# Altium schematic symbol library BaseBoard.SchLib: 69 symbols
Pins are listed as number, name and electrical type; pins without a type are passive.

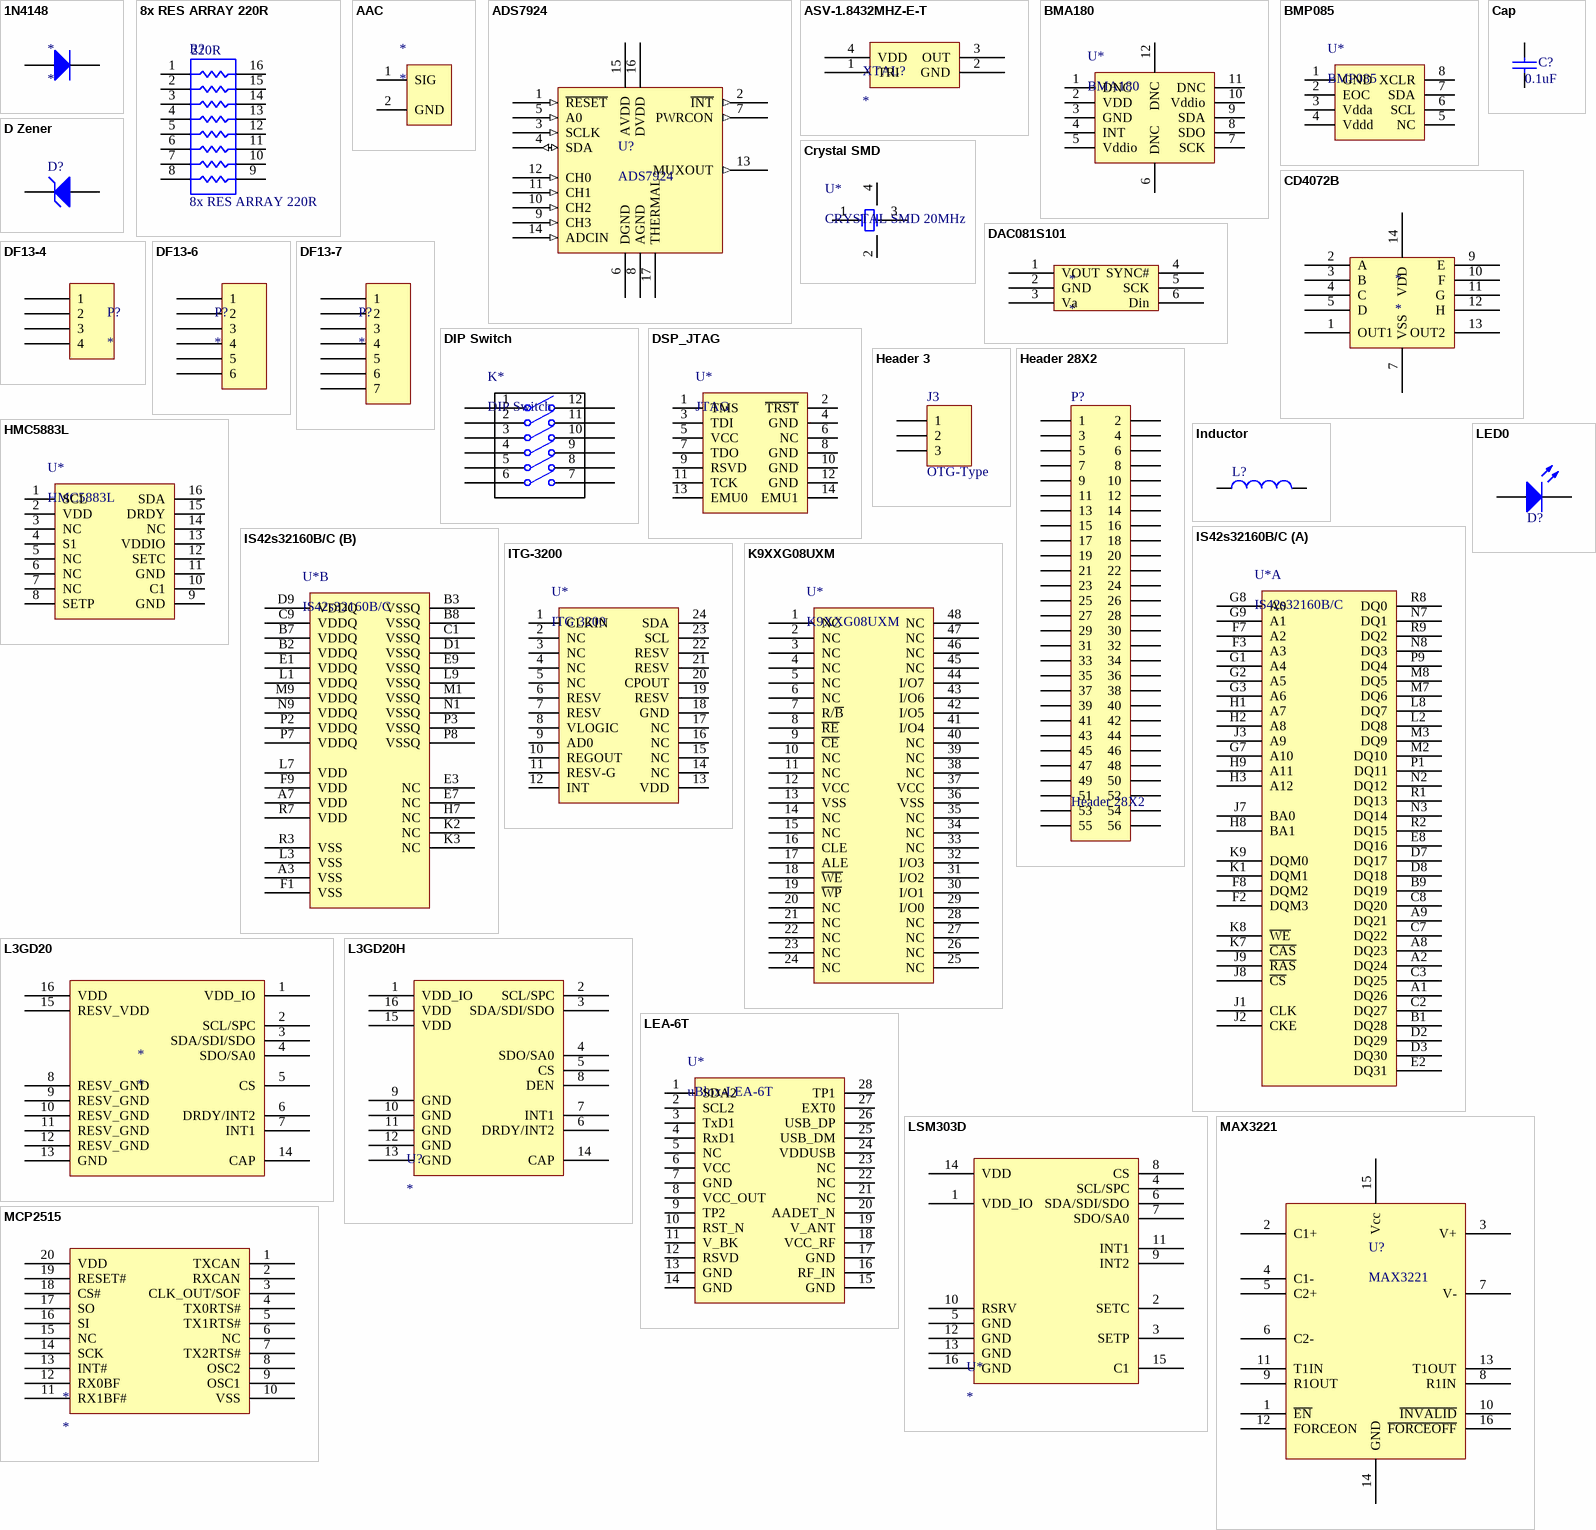
[diagram p0: symbols 1N4148 to MCP2515]

## 1N4148
designator *
Supplier 1: Digi-Key; Supplier Part Number 1: 1N4148WSFSCT-ND
footprint SOD-323F
footprint Model Name (Footprint not found)
pins: 1 A, 2 K

## 8x RES ARRAY 220R
designator R?  value 220R
Isolated Resistor Network; Published: 24-Mar-1999; LatestRevisionDate: 29-May-2009; LatestRevisionNote: IPC-7351 Footprint Added.; PackageReference: SO-16; Publisher: Altium Limited; PackageDescription: 16-Pin Small Outline Integrated Circuit 1.27 mm Pitch; Code_JEDEC: MS-012-AC; Code_IPC: SOIC127P600-16; Supplier 1: Digi-Key; Supplier Part Number 1: 766-163-R220P-ND
footprint SO-16_N (SOIC, 16-Leads, Body 9.9x3.9mm, Pitch 1.27mm, IPC Medium Density)
footprint SO-16_L (SOIC, 16-Leads, Body 9.9x3.9mm, Pitch 1.27mm, IPC High Density)
footprint SO-16_M (SOIC, 16-Leads, Body 9.9x3.9mm, Pitch 1.27mm, IPC Low Density)
simulation model respack_8 (Spice Subcircuit)
pins: 1, 2, 3, 4, 5, 6, 7, 8, 9, 10, 11, 12, 13, 14, 15, 16

## AAC
designator *
footprint u.FL
pins: 1 SIG, 2 GND

## ADS7924
designator U?
12-bit, 4-ch MUX input SAR ADC with Intelligent System Power Control; datasheet: http://www.ti.com/lit/ds/symlink/ads7924.pdf; Supplier 1: Digi-Key; Supplier Part Number 1: 296-27456-1-ND
footprint QFN50P300X300X80_HS-17N (QFN, 16-Leads, Body 3.00x3.00mm, Pitch 0.50mm, Thermal Pad 1.70x1.70mm, IPC Medium Density)
pins: 1 ~{RESET} (in), 2 ~{INT} (out), 3 SCLK (in), 4 SDA (io), 5 A0 (in), 6 DGND, 7 PWRCON (out), 8 AGND, 9 CH3 (in), 10 CH2 (in), 11 CH1 (in), 12 CH0 (in), 13 MUXOUT (out), 14 ADCIN (in), 15 AVDD (power), 16 DVDD (power), 17 THERMAL (power)

## ASV-1.8432MHZ-E-T
designator XTAL?
Value: 1.8432MHz; Supplier 1: Digi-Key; Supplier Part Number 1: 535-10062-1-ND
footprint ASV-1.8432MHZ-E-T
pins: 1 TRI, 2 GND, 3 OUT, 4 VDD

## BMA180
designator U*
Accelerometer - LGA12
footprint LGA12
pins: 1 DNC, 2 VDD, 3 GND, 4 INT, 5 Vddio, 6 DNC, 7 SCK, 8 SDO, 9 SDA, 10 Vddio, 11 DNC, 12 DNC

## BMP085
designator U*
Pressure sensor - LCC8
footprint LCC8
pins: 1 GND, 2 EOC "1-conversion end", 3 Vdda, 4 Vddd, 5 NC, 6 SCL, 7 SDA, 8 XCLR "Low to reset"

## Cap
designator C?, comment 0.1uF
Capacitor; Value: 100pF; Published: 8-Jun-2000; LatestRevisionDate: 17-Jul-2002; LatestRevisionNote: Re-released for DXP Platform.; PackageReference: RAD-0.3; Publisher: Altium Limited; PackageDescription: Radial Cap, Thru-Hole; 2 Leads; 0.3 in Pin Spacing
footprint 0603 (Chip Capacitor, Body 1.6x0.8mm, IPC High Density)
simulation model CAP (Capacitor)
signal-integrity model Cap
pins: 1, 2

## CD4072B
designator *
footprint SOP14
pins: 1 OUT1, 2 A, 3 B, 4 C, 5 D, 7 VSS, 9 E, 10 F, 11 G, 12 H, 13 OUT2, 14 VDD

## Crystal SMD
designator U*, comment CRYSTAL SMD 20MHz
Supplier 1: Digi-Key; Supplier Part Number 1: 644-1050-1-ND
footprint CRYSTAL - 2.5*2.2 (2.5 * 2, 24MHz,)
footprint Crystal - 3.2*2.5 (SMD Crystal. 20MHz)
pins: 1 xin, 2 GND, 3 xout, 4 GND

## D Zener
designator D?, comment SS34  (value not drawn)
Zener Diode; Published: 8-Jun-2000; LatestRevisionDate: 17-Jul-2002; LatestRevisionNote: Re-released for DXP Platform.; PackageReference: DIODE-0.7; Publisher: Altium Limited; PackageDescription: Diode, Thru-Hole; 2 Leads; 0.7 in Pin Spacing
footprint SMB-2114
simulation model ZENER (Diode)
signal-integrity model D Zener
pins: 1 A, 2 K

## DAC081S101
designator *
footprint SOP6
pins: 1 VOUT, 2 GND, 3 Va, 4 SYNC#, 5 SCK, 6 Din

## DF13-4
designator P?
Supplier 1: Digi-Key; Supplier Part Number 1: H3369-ND
footprint DF13-4S-1.25DS (DF13, 4 pin through hole 1.25mm)
footprint DF13-4S-1.25H (Hirose DF13 horizontal SMD 4 pin)
pins: 1, 2, 3, 4

## DF13-6
designator P?
Supplier 1: Digi-Key; Supplier Part Number 1: H3371-ND
footprint DF13-6S-1.25DS (DF13, 6 pin through hole 1.25mm)
footprint DF13-6S-1.25H (Hirose DF13 Horisontal SMD 6 pin)
pins: 1, 2, 3, 4, 5, 6

## DF13-7
designator P?
Supplier 1: Digi-Key; Supplier Part Number 1: H121949CT-ND
footprint DF13-7S-1.25DS (DF13, 7 pin through hole, 1.25mm)
footprint DF13-7S-1.25H (Hirose Right handle SMD 7pin)
pins: 1, 2, 3, 4, 5, 6, 7

## DIP Switch
designator K*
DIP Switch - 6, 1.27mm
footprint CHS-06TA
pins: 1, 2, 3, 4, 5, 6, 7, 8, 9, 10, 11, 12

## DSP_JTAG
designator U*, comment JTAG
DSP_JTAG
footprint HDR2X7
pins: 1 TMS, 2 ~{TRST}, 3 TDI, 4 GND, 5 VCC, 6 NC, 7 TDO, 8 GND, 9 RSVD, 10 GND, 11 TCK, 12 GND, 13 EMU0, 14 EMU1

## Header 3
designator J3, comment OTG-Type
Header, 3-Pin; LatestRevisionDate: 17-Jul-2002; LatestRevisionNote: Re-released for DXP Platform.; Publisher: Altium Limited
footprint HDR1X3 (Connector; Header; 3 Position)
signal-integrity model Connector
pins: 1, 2, 3

## Header 28X2
designator P?
Header, 28-Pin, Dual row; LatestRevisionDate: 17-Jul-2002; LatestRevisionNote: Re-released for DXP Platform.; Publisher: Altium Limited
pins: 1, 2, 3, 4, 5, 6, 7, 8, 9, 10, 11, 12, 13, 14, 15, 16, 17, 18, 19, 20, 21, 22, 23, 24, 25, 26, 27, 28, 29, 30, 31, 32, 33, 34, 35, 36, 37, 38, 39, 40, 41, 42, 43, 44, 45, 46, 47, 48, 49, 50, 51, 52, 53, 54, 55, 56

## HMC5883L
designator U*
Magnetometer - LCC16
footprint LCC16
pins: 1 SCL, 2 VDD, 3 NC, 4 S1, 5 NC, 6 NC, 7 NC, 8 SETP, 9 GND, 10 C1, 11 GND, 12 SETC, 13 VDDIO, 14 NC, 15 DRDY, 16 SDA

## Inductor
designator L?  (value not drawn)
Code_IEC: 1005; Value: 10mH; Published: 8-Jun-2000; LatestRevisionDate: 29-May-2009; LatestRevisionNote: IPC-7351 Footprint Added.; PackageReference: 0402-A; Publisher: Altium Limited; PackageDescription: Chip Inductor; Code_JEITA: 0402
footprint 0402-A (Chip Inductor, Body 1.0x0.5mm, IPC High Density)
footprint INDC1608L (Chip Inductor, Body 1.6x0.8mm, IPC High Density)
footprint 2029 (Chip Inductor, Body 2.0x1.2mm, IPC High Density)
footprint 0603 (Chip Inductor, Body 0.6x0.3mm, IPC High Density)
footprint INDC3216 (Chip Inductor, Body 3.2x1.6mm, IPC High Density)
footprint INDC4532 (Chip Inductor, Body 4.5x3.2mm, IPC High Density)
simulation model INDUCTOR (Inductor)
signal-integrity model Inductor
pins: 1, 2

## IS42s32160B/C
designator U*
512Mb, 32bit, SDR SDRAM
footprint FBGA-90 (8 * 13mm, 90-Ball Ball Grid Array Rectangular 0.8 mm Pitch (FB))
part A pins: A1 DQ26, A2 DQ24, A8 DQ23, A9 DQ21, B1 DQ28, B9 DQ19, C2 DQ27, C3 DQ25, C7 DQ22, C8 DQ20, D2 DQ29, D3 DQ30, D7 DQ17, D8 DQ18, E2 DQ31, E8 DQ16, F2 DQM3, F3 A3, F7 A2, F8 DQM2, G1 A4, G2 A5, G3 A6, G7 A10, G8 A0, G9 A1, H1 A7, H2 A8, H3 A12, H8 BA1, H9 A11, J1 CLK, J2 CKE, J3 A9, J7 BA0, J8 ~{CS}, J9 ~{RAS}, K1 DQM1, K7 ~{CAS}, K8 ~{WE}, K9 DQM0, L2 DQ8, L8 DQ7, M2 DQ10, M3 DQ9, M7 DQ6, M8 DQ5, N2 DQ12, N3 DQ14, N7 DQ1, N8 DQ3, P1 DQ11, P9 DQ4, R1 DQ13, R2 DQ15, R8 DQ0, R9 DQ2
part B pins: A3 VSS, A7 VDD, B2 VDDQ, B3 VSSQ, B7 VDDQ, B8 VSSQ, C1 VSSQ, C9 VDDQ, D1 VSSQ, D9 VDDQ, E1 VDDQ, E3 NC, E7 NC, E9 VSSQ, F1 VSS, F9 VDD, H7 NC, K2 NC, K3 NC, L1 VDDQ, L3 VSS, L7 VDD, L9 VSSQ, M1 VSSQ, M9 VDDQ, N1 VSSQ, N9 VDDQ, P2 VDDQ, P3 VSSQ, P7 VDDQ, P8 VSSQ, R3 VSS, R7 VDD

## ITG-3200
designator U*, comment ITG 3200
Gyro
footprint QFN24 (4 * 4 mm)
pins: 1 CLKIN, 2 NC, 3 NC, 4 NC, 5 NC, 6 RESV, 7 RESV, 8 VLOGIC, 9 AD0, 10 REGOUT, 11 RESV-G, 12 INT, 13 VDD, 14 NC, 15 NC, 16 NC, 17 NC, 18 GND, 19 RESV, 20 CPOUT, 21 RESV, 22 RESV, 23 SCL, 24 SDA

## K9XXG08UXM
designator U*
8BIT-NAND FLASH
footprint TSSO12X20-G48/P.5
pins: 1 NC, 2 NC, 3 NC, 4 NC, 5 NC, 6 NC, 7 R/~{B}, 8 ~{RE}, 9 ~{CE}, 10 NC, 11 NC, 12 VCC, 13 VSS, 14 NC, 15 NC, 16 CLE, 17 ALE, 18 ~{WE}, 19 ~{WP}, 20 NC, 21 NC, 22 NC, 23 NC, 24 NC, 25 NC, 26 NC, 27 NC, 28 NC, 29 I/O0, 30 I/O1, 31 I/O2, 32 I/O3, 33 NC, 34 NC, 35 NC, 36 VSS, 37 VCC, 38 NC, 39 NC, 40 NC, 41 I/O4, 42 I/O5, 43 I/O6, 44 I/O7, 45 NC, 46 NC, 47 NC, 48 NC

## L3GD20
designator *
Supplier 1: Digi-Key; Supplier Part Number 1: 497-12081-1-ND
footprint LGA16 (QFN, 16-Leads, Body 4.00x4.00mm, Pitch 0.65mm, IPC Medium Density)
pins: 1 VDD_IO, 2 SCL/SPC, 3 SDA/SDI/SDO, 4 SDO/SA0, 5 CS, 6 DRDY/INT2, 7 INT1, 8 RESV_GND, 9 RESV_GND, 10 RESV_GND, 11 RESV_GND, 12 RESV_GND, 13 GND, 14 CAP, 15 RESV_VDD, 16 VDD

## L3GD20H
designator U?
footprint LGA16L (3x3x1.0)
pins: 1 VDD_IO, 2 SCL/SPC, 3 SDA/SDI/SDO, 4 SDO/SA0, 5 CS, 6 DRDY/INT2, 7 INT1, 8 DEN, 9 GND, 10 GND, 11 GND, 12 GND, 13 GND, 14 CAP, 15 VDD, 16 VDD

## LEA-6T
designator U*, comment uBlox-LEA-6T
GPS module
footprint LEA-6
pins: 1 SDA2, 2 SCL2, 3 TxD1, 4 RxD1, 5 NC, 6 VCC, 7 GND, 8 VCC_OUT, 9 TP2, 10 RST_N, 11 V_BK, 12 RSVD, 13 GND, 14 GND, 15 GND, 16 RF_IN, 17 GND, 18 VCC_RF, 19 V_ANT, 20 AADET_N, 21 NC, 22 NC, 23 NC, 24 VDDUSB, 25 USB_DM, 26 USB_DP, 27 EXT0, 28 TP1

## LED0
designator D?  (value not drawn)
Typical INFRARED GaAs LED; Published: 8-Jun-2000; LatestRevisionDate: 08-Jul-2005; LatestRevisionNote: Mech Layer 1 removed.; PackageReference: LED-0; Publisher: Altium Limited; PackageDescription: LED; 2 Leads
footprint 0805 (body2.0mm * 1.2mm)
simulation model LED0 (Diode)
pins: 1 A, 2 K

## LSM303D
designator U*
Supplier 1: Digi-Key; Supplier Part Number 1: 497-13819-1-ND
footprint LGA16L (3x3x1.0)
pins: 1 VDD_IO, 2 SETC, 3 SETP, 4 SCL/SPC, 5 GND, 6 SDA/SDI/SDO, 7 SDO/SA0, 8 CS, 9 INT2, 10 RSRV, 11 INT1, 12 GND, 13 GND, 14 VDD, 15 C1, 16 GND

## MAX3221
designator U?
ComponentLink1URL: http://datasheets.maximintegrated.com/en/ds/MAX3221-MAX3243.pdf; ComponentLink1Description: Datasheet; Supplier 1: Digi-Key; Supplier Part Number 1: MAX3221CUE+-ND
footprint TSOP65P640X110-16M (TSOP, 16-Leads, Body 5.00x4.40mm, Pitch 0.65mm, IPC Low Density)
pins: 1 ~{EN}, 2 C1+, 3 V+, 4 C1-, 5 C2+, 6 C2-, 7 V-, 8 R1IN, 9 R1OUT, 10 ~{INVALID}, 11 T1IN, 12 FORCEON, 13 T1OUT, 14 GND, 15 Vcc, 16 ~{FORCEOFF}

## MCP2515
designator *
footprint TSSOP20 (Shrink Small Outline; 20 Leads; Body Width 4.4 mm; Pitch 0.65 mm)
footprint Quad20; pin to pad 1>3 2>4 3>5 4>6 5>7 6>8 7>9 8>10 9>11 10>12 11>13 12>14 13>15 14>16 15>17 16>18 17>19 18>20 19>1 20>2
pins: 1 TXCAN, 2 RXCAN, 3 CLK_OUT/SOF, 4 TX0RTS#, 5 TX1RTS#, 6 NC, 7 TX2RTS#, 8 OSC2, 9 OSC1, 10 VSS, 11 RX1BF#, 12 RX0BF, 13 INT#, 14 SCK, 15 NC, 16 SI, 17 SO, 18 CS#, 19 RESET#, 20 VDD

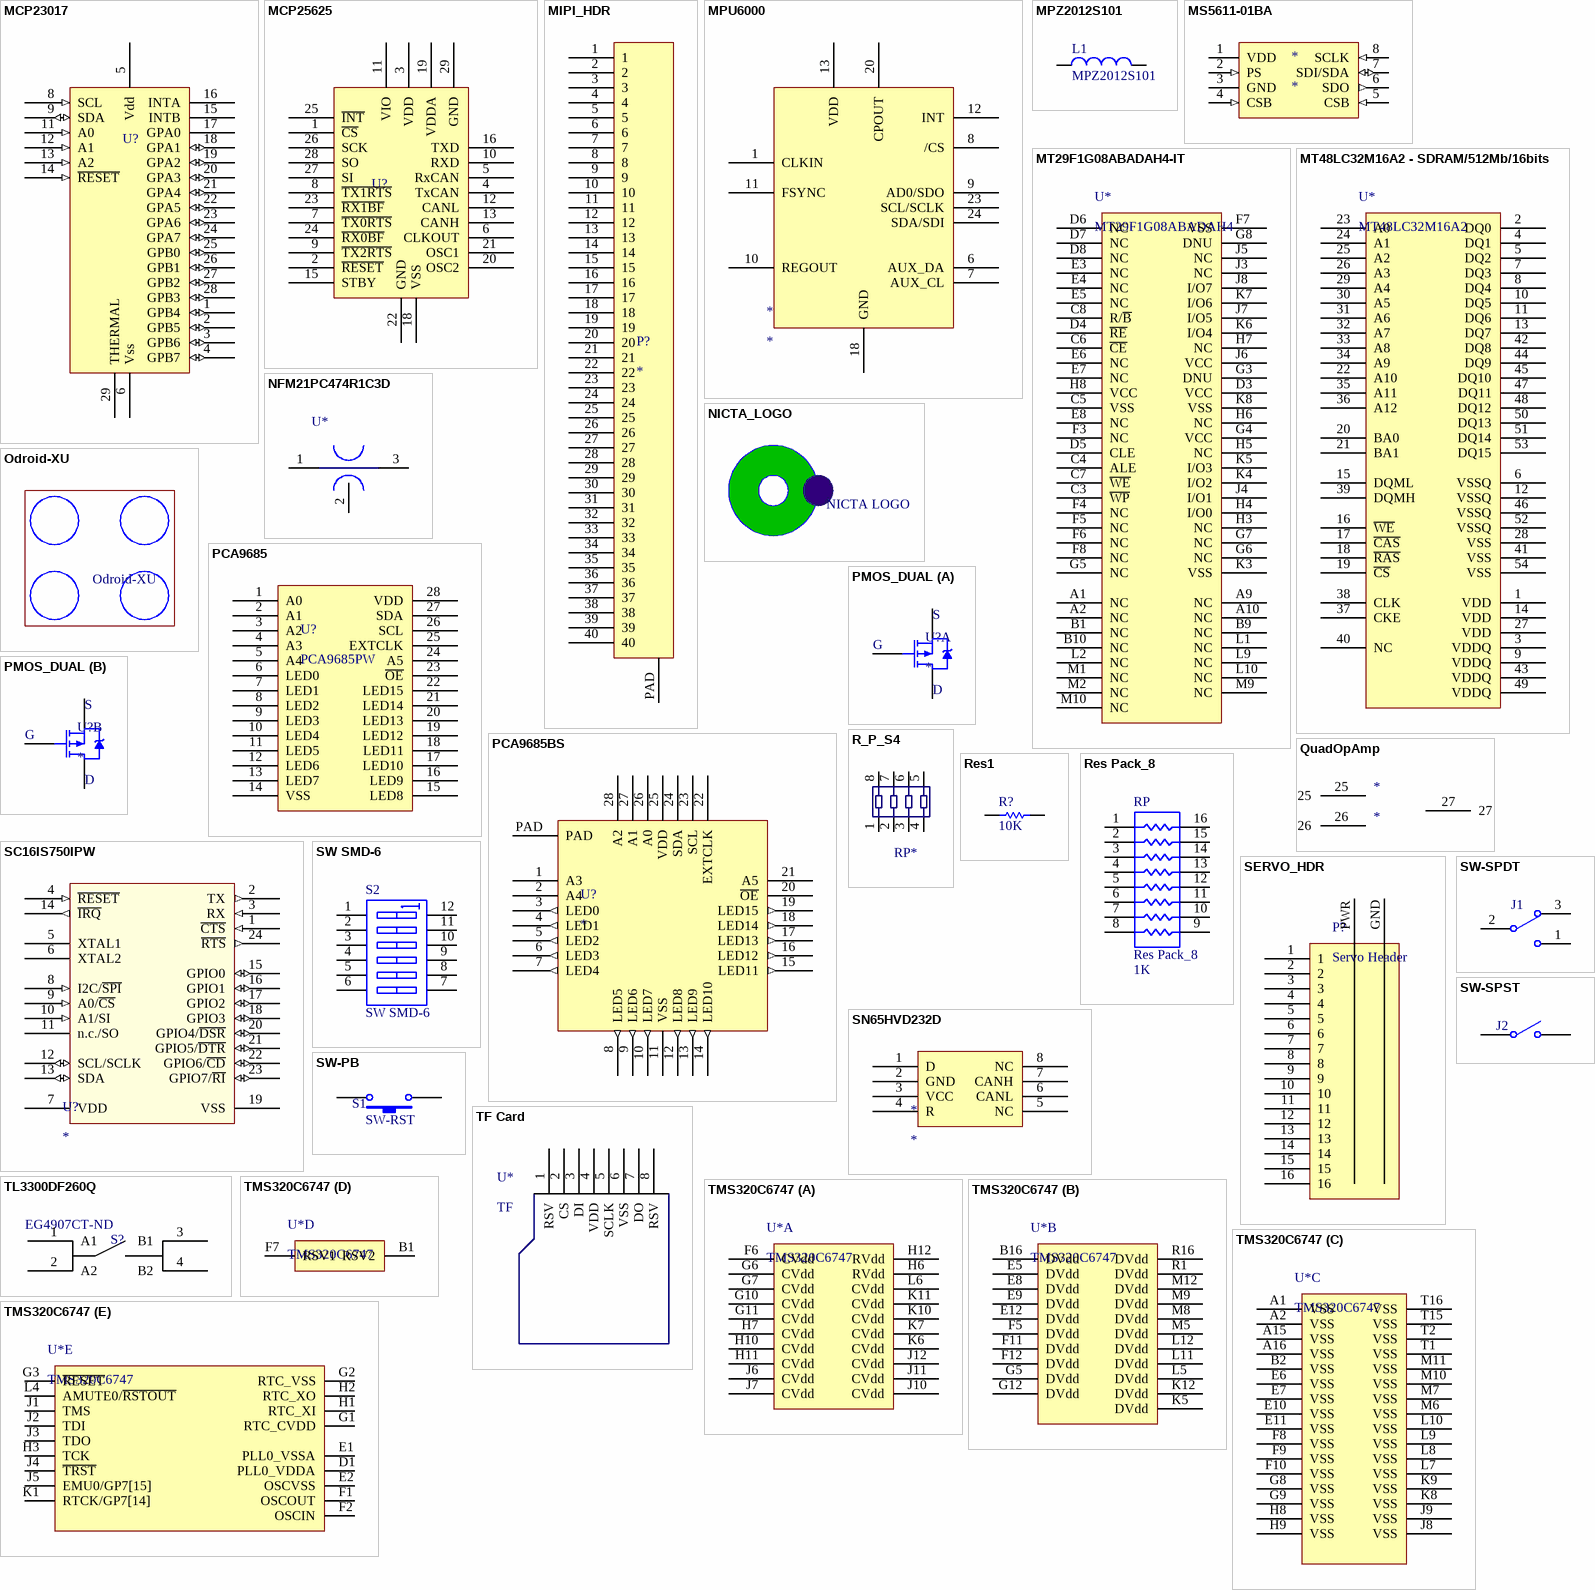
[diagram p1: symbols MCP23017 to TMS320C6747]

## MCP23017
designator U?  (value not drawn)
16-bit input/output port expander with interrupt output; datasheet: http://ww1.microchip.com/downloads/en/DeviceDoc/21952b.pdf; Supplier 1: Digi-Key; Supplier Part Number 1: MCP23017-E/ML-ND
footprint QFN65P600X600X100_HS-29N (QFN, 28-Leads, Body 6.00x6.00mm, Pitch 0.65mm, Thermal Pad 3.93x3.93mm, IPC Medium Density)
pins: 1 GPB4 (io), 2 GPB5 (io), 3 GPB6 (io), 4 GPB7 (io), 5 Vdd, 6 Vss, 8 SCL (in), 9 SDA (io), 11 A0 (in), 12 A1 (in), 13 A2 (in), 14 ~{RESET} (in), 15 INTB, 16 INTA, 17 GPA0, 18 GPA1 (io), 19 GPA2 (io), 20 GPA3 (io), 21 GPA4 (io), 22 GPA5 (io), 23 GPA6 (io), 24 GPA7 (io), 25 GPB0 (io), 26 GPB1 (io), 27 GPB2 (io), 28 GPB3 (io), 29 THERMAL (power)

## MCP25625
designator U?  (value not drawn)
CAN Controller with Integrated Transceiver; datasheet: http://ww1.microchip.com/downloads/en/DeviceDoc/20005282A.pdf; Supplier 1: Digi-Key; Supplier Part Number 1: MCP25625-E/ML-ND
footprint QFN65P600X600X100_HS-29N (QFN, 28-Leads, Body 6.00x6.00mm, Pitch 0.65mm, Thermal Pad 3.93x3.93mm, IPC Medium Density)
pins: 1 ~{CS}, 2 ~{RESET}, 3 VDD, 4 TxCAN, 5 RxCAN, 6 CLKOUT, 7 ~{TX0RTS}, 8 ~{TX1RTS}, 9 ~{TX2RTS}, 10 RXD, 11 VIO, 12 CANL, 13 CANH, 15 STBY, 16 TXD, 18 VSS, 19 VDDA, 20 OSC2, 21 OSC1, 22 GND, 23 ~{RX1BF}, 24 ~{RX0BF}, 25 ~{INT}, 26 SCK, 27 SI, 28 SO, 29 GND

## MIPI_HDR
designator P?
footprint HS1S040 (JAE HS1S040 MIPI connector)
pins: 1, 2, 3, 4, 5, 6, 7, 8, 9, 10, 11, 12, 13, 14, 15, 16, 17, 18, 19, 20, 21, 22, 23, 24, 25, 26, 27, 28, 29, 30, 31, 32, 33, 34, 35, 36, 37, 38, 39, 40, PAD

## MPU6000
designator *
Supplier 1: Digi-Key; Supplier Part Number 1: 1428-1005-1-ND
footprint QFN24 (4 * 4 mm)
pins: 1 CLKIN, 6 AUX_DA, 7 AUX_CL, 8 /CS, 9 AD0/SDO, 10 REGOUT, 11 FSYNC, 12 INT, 13 VDD (power), 18 GND (power), 20 CPOUT, 23 SCL/SCLK, 24 SDA/SDI

## MPZ2012S101
designator L1
Supplier 1: Digi-Key; Supplier Part Number 1: 445-1567-1-ND
footprint MPZ2012S101A (Ferrite bead inductor)
pins: 1, 2

## MS5611-01BA
designator *
Supplier 1: Digi-Key; Supplier Part Number 1: 223-1622-1-ND
footprint QFN8 (5*3*1.7)
pins: 1 VDD (power), 2 PS (in), 3 GND (power), 4 CSB (in), 5 CSB (in), 6 SDO (out), 7 SDI/SDA (io), 8 SCLK (in)

## MT29F1G08ABADAH4-IT
designator U*, comment MT29F1G08ABADAH4
1Gb, 8bit, 3.3V NANDFLASH
footprint VFBGA(H4)-63 (9* 11mm, 63-Ball Ball Grid Array Rectangular 0.8 mm Pitch)
pins: A1 NC, A2 NC, A9 NC, A10 NC, B1 NC, B9 NC, B10 NC, C3 ~{WP}, C4 ALE, C5 VSS, C6 ~{CE}, C7 ~{WE}, C8 R/~{B}, D3 VCC, D4 ~{RE}, D5 CLE, D6 NC, D7 NC, D8 NC, E3 NC, E4 NC, E5 NC, E6 NC, E7 NC, E8 NC, F3 NC, F4 NC, F5 NC, F6 NC, F7 VSS, F8 NC, G3 DNU, G4 VCC, G5 NC, G6 NC, G7 NC, G8 DNU, H3 NC, H4 I/O0, H5 NC, H6 NC, H7 NC, H8 VCC, J3 NC, J4 I/O1, J5 NC, J6 VCC, J7 I/O5, J8 I/O7, K3 VSS, K4 I/O2, K5 I/O3, K6 I/O4, K7 I/O6, K8 VSS, L1 NC, L2 NC, L9 NC, L10 NC, M1 NC, M2 NC, M9 NC, M10 NC

## MT48LC32M16A2 - SDRAM/512Mb/16bits
designator U*, comment MT48LC32M16A2
SDRAM/512Mb/16bits
footprint TSOP2-54_M (54-Pin Plastic Small Outline Package 0.8 mm Pitch, IPC Low Density)
pins: 1 VDD, 2 DQ0, 3 VDDQ, 4 DQ1, 5 DQ2, 6 VSSQ, 7 DQ3, 8 DQ4, 9 VDDQ, 10 DQ5, 11 DQ6, 12 VSSQ, 13 DQ7, 14 VDD, 15 DQML, 16 ~{WE}, 17 ~{CAS}, 18 ~{RAS}, 19 ~{CS}, 20 BA0, 21 BA1, 22 A10, 23 A0, 24 A1, 25 A2, 26 A3, 27 VDD, 28 VSS, 29 A4, 30 A5, 31 A6, 32 A7, 33 A8, 34 A9, 35 A11, 36 A12, 37 CKE, 38 CLK, 39 DQMH, 40 NC, 41 VSS, 42 DQ8, 43 VDDQ, 44 DQ9, 45 DQ10, 46 VSSQ, 47 DQ11, 48 DQ12, 49 VDDQ, 50 DQ13, 51 DQ14, 52 VSSQ, 53 DQ15, 54 VSS

## NFM21PC474R1C3D
designator U*, comment EMIFIL  (value not drawn)
footprint NFM21P - 0805 (body2.0mm * 1.2mm)
pins: 1, 2, 3

## NICTA_LOGO
designator LOGO, comment NICTA LOGO  (graphical)
footprint NICTA_LOGO (nicta logo)

## Odroid-XU
designator ?
footprint Odroid-XU (Odroid-XU PCB)

## PCA9685
designator U?, comment PCA9685PW
pins: 1 A0, 2 A1, 3 A2, 4 A3, 5 A4, 6 LED0, 7 LED1, 8 LED2, 9 LED3, 10 LED4, 11 LED5, 12 LED6, 13 LED7, 14 VSS, 15 LED8, 16 LED9, 17 LED10, 18 LED11, 19 LED12, 20 LED13, 21 LED14, 22 LED15, 23 ~{OE}, 24 A5, 25 EXTCLK, 26 SCL, 27 SDA, 28 VDD

## PCA9685BS
designator U?
ComponentLink1URL: http://www.nxp.com/documents/data_sheet/PCA9685.pdf; ComponentLink1Description: Datasheet; Supplier 1: Digi-Key; Supplier Part Number 1: 568-5305-1-ND
footprint HVQFN28 (QFN, 28-Leads, Body 6.00x6.00mm, Pitch 0.65mm, Thermal Pad 4.10x4.10mm, IPC Medium Density)
pins: 1 A3, 2 A4, 3 LED0 (out), 4 LED1 (out), 5 LED2 (out), 6 LED3 (out), 7 LED4 (out), 8 LED5 (out), 9 LED6 (out), 10 LED7 (out), 11 VSS (power), 12 LED8 (out), 13 LED9 (out), 14 LED10 (out), 15 LED11 (out), 16 LED12 (out), 17 LED13 (out), 18 LED14 (out), 19 LED15 (out), 20 ~{OE}, 21 A5, 22 EXTCLK, 23 SCL, 24 SDA, 25 VDD (power), 26 A0, 27 A1, 28 A2, PAD

## PMOS_DUAL
designator U?
Supplier 1: Digi-Key; Supplier Part Number 1: DMP2240UDMDICT-ND
footprint SOT26A-6N (SOT23, 6-Leads, Body 2.9x1.7mm, Pitch 0.95mm, Lead Span 2.8mm, IPC Medium Density)
part A pins: 1 G1, 5 S1, 6 D1
part B pins: 2 S2, 3 G2, 4 D2
part A text: S; G; D
part B text: S; G; D

## QuadOpAmp
designator *
pins: 25, 26, 27

## R_P_S4
designator RP*, comment RP_4  (value not drawn)
footprint RP_4
footprint RP_4
pins: 1, 2, 3, 4, 5, 6, 7, 8

## Res1
designator R?, comment 10K
Resistor; Value: 1K; Published: 8-Jun-2000; LatestRevisionDate: 17-Jul-2002; LatestRevisionNote: Re-released for DXP Platform.; PackageReference: AXIAL-0.3; Publisher: Altium Limited; PackageDescription: Axial Device, Thru-Hole; 2 Leads; 0.3 in Pin Spacing
footprint 0603 (Chip Capacitor, Body 1.6x0.8mm, IPC High Density)
simulation model RESISTOR (Resistor)
signal-integrity model Res
pins: 1, 2

## Res Pack_8
designator RP  value 1K
Isolated Resistor Network; Published: 24-Mar-1999; LatestRevisionDate: 29-May-2009; LatestRevisionNote: IPC-7351 Footprint Added.; PackageReference: SO-16; Publisher: Altium Limited; PackageDescription: 16-Pin Small Outline Integrated Circuit 1.27 mm Pitch; Code_JEDEC: MS-012-AC; Code_IPC: SOIC127P600-16
footprint SOIC16_N (SOIC, 16-Leads, Body 9.9x3.9mm, Pitch 1.27mm, IPC Medium Density)
footprint SO-16_L (SOIC, 16-Leads, Body 9.9x3.9mm, Pitch 1.27mm, IPC High Density)
footprint SO-16_M (SOIC, 16-Leads, Body 9.9x3.9mm, Pitch 1.27mm, IPC Low Density)
simulation model respack_8 (Spice Subcircuit)
pins: 1, 2, 3, 4, 5, 6, 7, 8, 9, 10, 11, 12, 13, 14, 15, 16

## SC16IS750IPW
designator U?
I2C/SPI to UART bridge; Supplier 1: Digi-Key; Supplier Part Number 1: 568-4523-1-ND
footprint SC16IS750IPW-TSSOP24 (TSOP, 24-Leads, Body 7.80x4.40mm, Pitch 0.65mm, IPC Low Density)
pins: 1 ~{CTS} (in), 2 TX (out), 3 RX (in), 4 ~{RESET} (in), 5 XTAL1, 6 XTAL2, 7 VDD, 8 I2C/~{SPI} (in), 9 A0/~{CS} (in), 10 A1/SI (in), 11 n.c./SO, 12 SCL/SCLK (io), 13 SDA (io), 14 ~{IRQ} (out), 15 GPIO0 (io), 16 GPIO1 (io), 17 GPIO2 (io), 18 GPIO3 (io), 19 VSS, 20 GPIO4/~{DSR} (io), 21 GPIO5/~{DTR} (io), 22 GPIO6/~{CD} (io), 23 GPIO7/~{RI} (io), 24 ~{RTS} (out)

## SERVO_HDR
designator P?, comment Servo Header
footprint SRVO_HDR (16 channel PWM servo header)
pins: 1, 2, 3, 4, 5, 6, 7, 8, 9, 10, 11, 12, 13, 14, 15, 16, GND, PWR

## SN65HVD232D
designator *
footprint SOIC8_L (SOIC, 8-Leads, Body 4.8x3.9mm, Pitch 1.27mm, IPC High Density)
pins: 1 D, 2 GND, 3 VCC, 4 R, 5 NC, 6 CANL, 7 CANH, 8 NC

## SW SMD-6
designator S2
Switch, 6 Position, SPST; Published: 24-Mar-1999; LatestRevisionDate: 17-Jul-2002; LatestRevisionNote: Re-released for DXP Platform.; PackageReference: DIP-12/SW; Publisher: Altium Limited; PackageDescription: DIP Switch; 12 Leads
footprint BOMA-6-SMD-1.27
simulation model dpsw6 (Spice Subcircuit)
pins: 1 A1, 2 A2, 3 A3, 4 A4, 5 A5, 6 A6, 7 B6, 8 B5, 9 B4, 10 B3, 11 B2, 12 B1

## SW-PB
designator S1, comment SW-RST
Switch; Published: 24-Mar-1999; LatestRevisionDate: 17-Jul-2002; LatestRevisionNote: Re-released for DXP Platform.; PackageReference: SPST-2; Publisher: Altium Limited; PackageDescription: Switch; 2 Leads
footprint switch
pins: 1, 2

## SW-SPDT
designator J1  (value not drawn)
SPDT Subminiature Toggle Switch, Right Angle Mounting, Vertical Actuation; Published: 24-Mar-1999; LatestRevisionDate: 17-Dec-2003; LatestRevisionNote: Schematic revised, PCB Footprint replaced.; DatasheetVersion: 05-Dec-2000; PackageReference: TL36WW15050; Publisher: Altium Limited; PackageDescription: Switch; 4 Leads; ComponentLink1Description: Manufacturer Link; ComponentLink1URL: http://www.apem.com
footprint JUMP-3
pins: 1, 2, 3

## SW-SPST
designator J2  (value not drawn)
Single-Pole, Single-Throw Switch; Published: 24-Mar-1999; LatestRevisionDate: 17-Jul-2002; LatestRevisionNote: Re-released for DXP Platform.; PackageReference: SPST-2; Publisher: Altium Limited; PackageDescription: Switch; 2 Leads
footprint JUMP-2
pins: 1 COMMON, 2 NO

## TF Card
designator U*, comment TF
footprint TF-PUSH
pins: 1 RSV, 2 CS, 3 DI, 4 VDD, 5 SCLK, 6 VSS, 7 DO, 8 RSV

## TL3300DF260Q
designator S?  Supplier Part Number 1: EG4907CT-ND  (hidden comment: *)
Button; datasheet: http://spec.e-switch.com/N-D/N301104.pdf; Supplier 1: Digi-Key
footprint TL3300DF260Q (E-switch)
pins: 1 A1, 2 A2, 3 B1, 4 B2

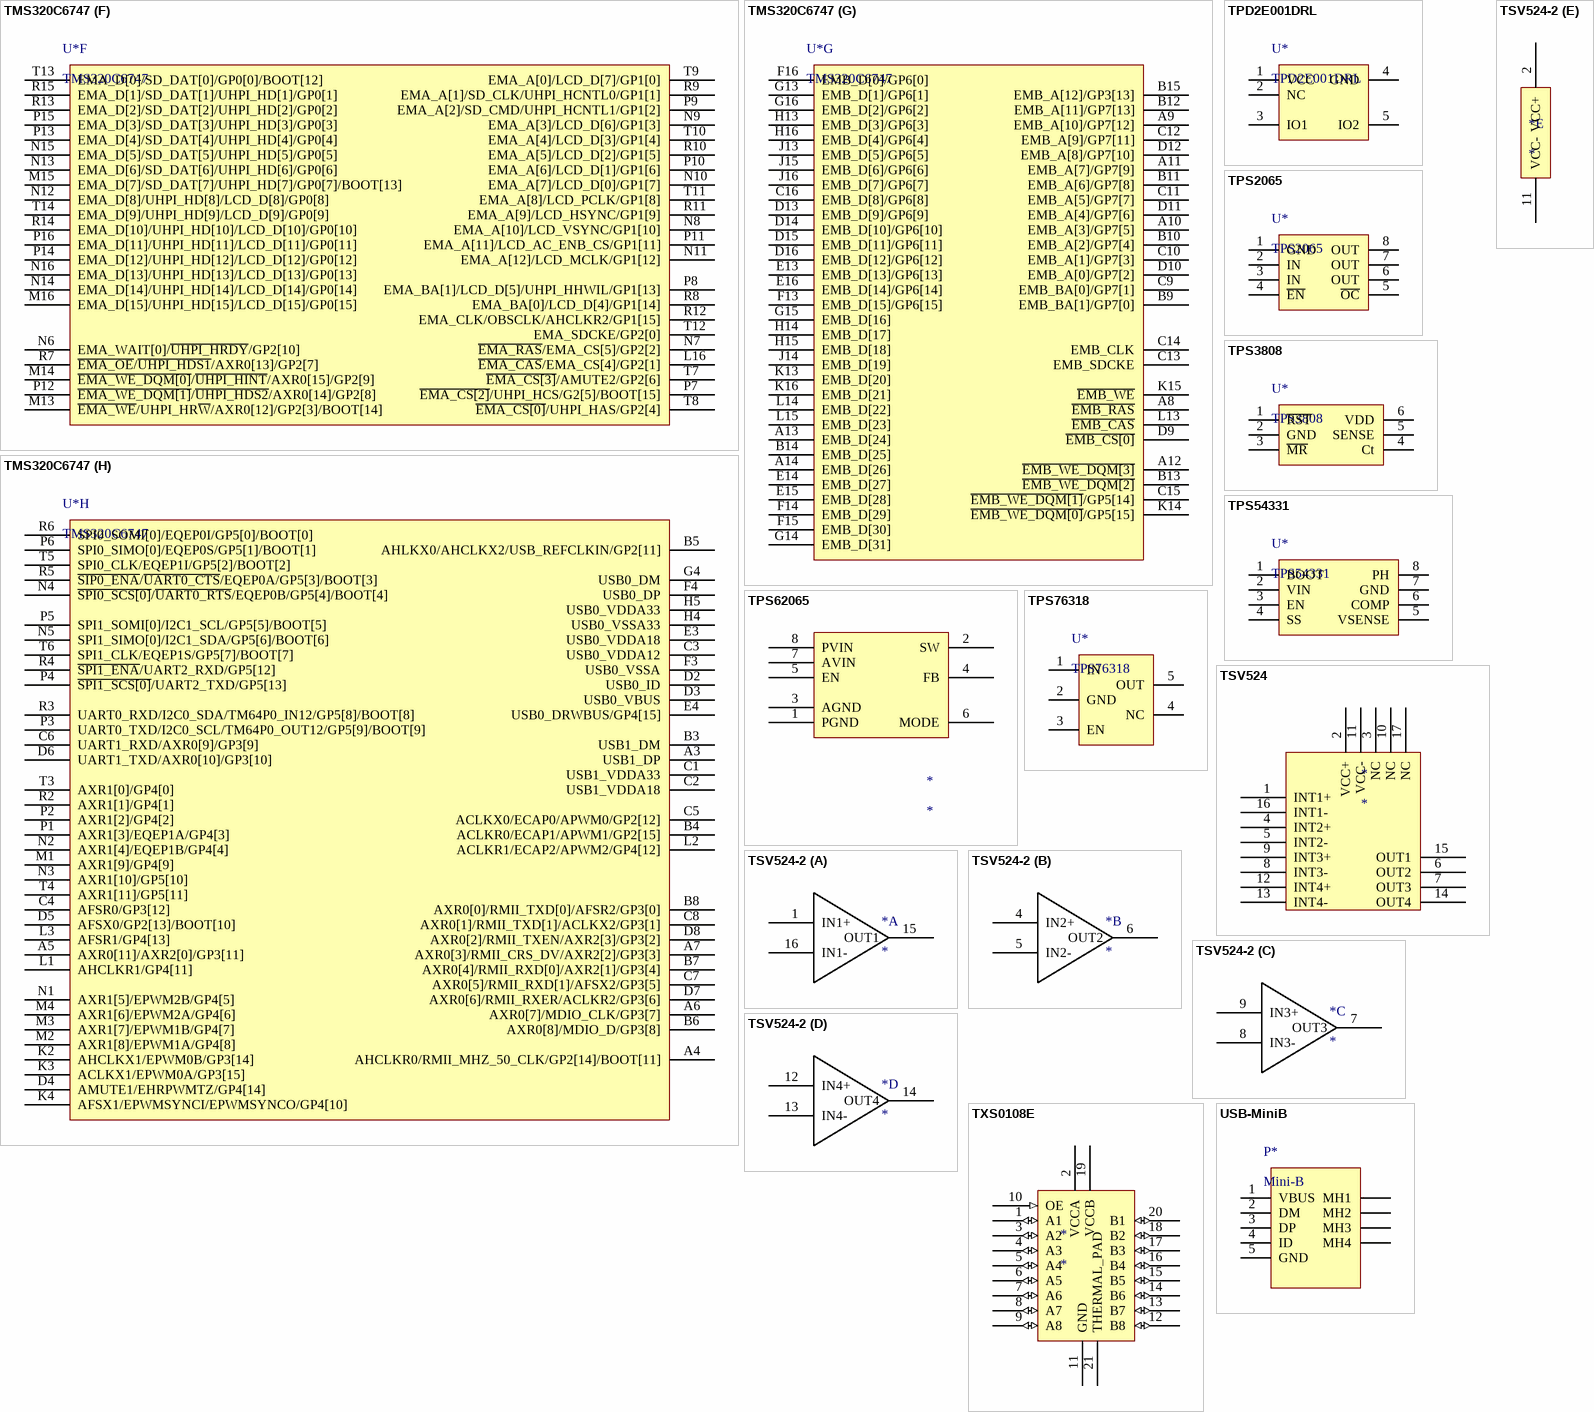
[diagram p2: symbols TMS320C6747 to USB-MiniB]

## TMS320C6747
designator U*
footprint BGA16x16-B256
part A pins: F6 CVdd, G6 CVdd, G7 CVdd, G10 CVdd, G11 CVdd, H6 RVdd, H7 CVdd, H10 CVdd, H11 CVdd, H12 RVdd, J6 CVdd, J7 CVdd, J10 CVdd, J11 CVdd, J12 CVdd, K6 CVdd, K7 CVdd, K10 CVdd, K11 CVdd, L6 CVdd
part B pins: B16 DVdd, E5 DVdd, E8 DVdd, E9 DVdd, E12 DVdd, F5 DVdd, F11 DVdd, F12 DVdd, G5 DVdd, G12 DVdd, K5 DVdd, K12 DVdd, L5 DVdd, L11 DVdd, L12 DVdd, M5 DVdd, M8 DVdd, M9 DVdd, M12 DVdd, R1 DVdd, R16 DVdd
part C pins: A1 VSS, A2 VSS, A15 VSS, A16 VSS, B2 VSS, E6 VSS, E7 VSS, E10 VSS, E11 VSS, F8 VSS, F9 VSS, F10 VSS, G8 VSS, G9 VSS, H8 VSS, H9 VSS, J8 VSS, J9 VSS, K8 VSS, K9 VSS, L7 VSS, L8 VSS, L9 VSS, L10 VSS, M6 VSS, M7 VSS, M10 VSS, M11 VSS, T1 VSS, T2 VSS, T15 VSS, T16 VSS
part D pins: B1 RSV2, F7 RSV1
part E pins: D1 PLL0_VDDA, E1 PLL0_VSSA, E2 OSCVSS, F1 OSCOUT, F2 OSCIN, G1 RTC_CVDD, G2 RTC_VSS, G3 ~{RESET}, H1 RTC_XI, H2 RTC_XO, H3 TCK, J1 TMS, J2 TDI, J3 TDO, J4 ~{TRST}, J5 EMU0/GP7[15], K1 RTCK/GP7[14], L4 AMUTE0/~{RSTOUT}
part F pins: L16 ~{EMA_CAS}/EMA_CS[4]/GP2[1], M13 ~{EMA_WE}/UHPI_HR~{W}/AXR0[12]/GP2[3]/BOOT[14], M14 ~{EMA_WE_DQM[0]}/~{UHPI_HINT}/AXR0[15]/GP2[9], M15 EMA_D[7]/SD_DAT[7]/UHPI_HD[7]/GP0[7]/BOOT[13], M16 EMA_D[15]/UHPI_HD[15]/LCD_D[15]/GP0[15], N6 EMA_WAIT[0]/~{UHPI_HRDY}/GP2[10], N7 ~{EMA_RAS}/EMA_CS[5]/GP2[2], N8 EMA_A[10]/LCD_VSYNC/GP1[10], N9 EMA_A[3]/LCD_D[6]/GP1[3], N10 EMA_A[7]/LCD_D[0]/GP1[7], N11 EMA_A[12]/LCD_MCLK/GP1[12], N12 EMA_D[8]/UHPI_HD[8]/LCD_D[8]/GP0[8], N13 EMA_D[6]/SD_DAT[6]/UHPI_HD[6]/GP0[6], N14 EMA_D[14]/UHPI_HD[14]/LCD_D[14]/GP0[14], N15 EMA_D[5]/SD_DAT[5]/UHPI_HD[5]/GP0[5], N16 EMA_D[13]/UHPI_HD[13]/LCD_D[13]/GP0[13], P7 ~{EMA_CS[2]}/UHPI_HCS/G2[5]/BOOT[15], P8 EMA_BA[1]/LCD_D[5]/UHPI_HHWIL/GP1[13], P9 EMA_A[2]/SD_CMD/UHPI_HCNTL1/GP1[2], P10 EMA_A[6]/LCD_D[1]/GP1[6], P11 EMA_A[11]/LCD_AC_ENB_CS/GP1[11], P12 ~{EMA_WE_DQM[1]}/~{UHPI_HDS2}/AXR0[14]/GP2[8], P13 EMA_D[4]/SD_DAT[4]/UHPI_HD[4]/GP0[4], P14 EMA_D[12]/UHPI_HD[12]/LCD_D[12]/GP0[12], P15 EMA_D[3]/SD_DAT[3]/UHPI_HD[3]/GP0[3], P16 EMA_D[11]/UHPI_HD[11]/LCD_D[11]/GP0[11], R7 ~{EMA_OE}/~{UHPI_HDS1}/AXR0[13]/GP2[7], R8 EMA_BA[0]/LCD_D[4]/GP1[14], R9 EMA_A[1]/SD_CLK/UHPI_HCNTL0/GP1[1], R10 EMA_A[5]/LCD_D[2]/GP1[5], R11 EMA_A[9]/LCD_HSYNC/GP1[9], R12 EMA_CLK/OBSCLK/AHCLKR2/GP1[15], R13 EMA_D[2]/SD_DAT[2]/UHPI_HD[2]/GP0[2], R14 EMA_D[10]/UHPI_HD[10]/LCD_D[10]/GP0[10], R15 EMA_D[1]/SD_DAT[1]/UHPI_HD[1]/GP0[1], T7 ~{EMA_CS[3]}/AMUTE2/GP2[6], T8 ~{EMA_CS[0]}/UHPI_HAS/GP2[4], T9 EMA_A[0]/LCD_D[7]/GP1[0], T10 EMA_A[4]/LCD_D[3]/GP1[4], T11 EMA_A[8]/LCD_PCLK/GP1[8], T12 EMA_SDCKE/GP2[0], T13 EMA_D[0]/SD_DAT[0]/GP0[0]/BOOT[12], T14 EMA_D[9]/UHPI_HD[9]/LCD_D[9]/GP0[9]
part G pins: A8 ~{EMB_RAS}, A9 EMB_A[10]/GP7[12], A10 EMB_A[3]/GP7[5], A11 EMB_A[7]/GP7[9], A12 ~{EMB_WE_DQM[3]}, A13 EMB_D[24], A14 EMB_D[26], B9 EMB_BA[1]/GP7[0], B10 EMB_A[2]/GP7[4], B11 EMB_A[6]/GP7[8], B12 EMB_A[11]/GP7[13], B13 ~{EMB_WE_DQM[2]}, B14 EMB_D[25], B15 EMB_A[12]/GP3[13], C9 EMB_BA[0]/GP7[1], C10 EMB_A[1]/GP7[3], C11 EMB_A[5]/GP7[7], C12 EMB_A[9]/GP7[11], C13 EMB_SDCKE, C14 EMB_CLK, C15 ~{EMB_WE_DQM[1]}/GP5[14], C16 EMB_D[8]/GP6[8], D9 ~{EMB_CS[0]}, D10 EMB_A[0]/GP7[2], D11 EMB_A[4]/GP7[6], D12 EMB_A[8]/GP7[10], D13 EMB_D[9]/GP6[9], D14 EMB_D[10]/GP6[10], D15 EMB_D[11]/GP6[11], D16 EMB_D[12]/GP6[12], E13 EMB_D[13]/GP6[13], E14 EMB_D[27], E15 EMB_D[28], E16 EMB_D[14]/GP6[14], F13 EMB_D[15]/GP6[15], F14 EMB_D[29], F15 EMB_D[30], F16 EMB_D[0]/GP6[0], G13 EMB_D[1]/GP6[1], G14 EMB_D[31], G15 EMB_D[16], G16 EMB_D[2]/GP6[2], H13 EMB_D[3]/GP6[3], H14 EMB_D[17], H15 EMB_D[18], H16 EMB_D[4]/GP6[4], J13 EMB_D[5]/GP6[5], J14 EMB_D[19], J15 EMB_D[6]/GP6[6], J16 EMB_D[7]/GP6[7], K13 EMB_D[20], K14 ~{EMB_WE_DQM[0]}/GP5[15], K15 ~{EMB_WE}, K16 EMB_D[21], L13 ~{EMB_CAS}, L14 EMB_D[22], L15 EMB_D[23]
part H pins: A3 USB1_DP, A4 AHCLKR0/RMII_MHZ_50_CLK/GP2[14]/BOOT[11], A5 AXR0[11]/AXR2[0]/GP3[11], A6 AXR0[7]/MDIO_CLK/GP3[7], A7 AXR0[3]/RMII_CRS_DV/AXR2[2]/GP3[3], B3 USB1_DM, B4 ACLKR0/ECAP1/APWM1/GP2[15], B5 AHLKX0/AHCLKX2/USB_REFCLKIN/GP2[11], B6 AXR0[8]/MDIO_D/GP3[8], B7 AXR0[4]/RMII_RXD[0]/AXR2[1]/GP3[4], B8 AXR0[0]/RMII_TXD[0]/AFSR2/GP3[0], C1 USB1_VDDA33, C2 USB1_VDDA18, C3 USB0_VDDA12, C4 AFSR0/GP3[12], C5 ACLKX0/ECAP0/APWM0/GP2[12], C6 UART1_RXD/AXR0[9]/GP3[9], C7 AXR0[5]/RMII_RXD[1]/AFSX2/GP3[5], C8 AXR0[1]/RMII_TXD[1]/ACLKX2/GP3[1], D2 USB0_ID, D3 USB0_VBUS, D4 AMUTE1/EHRPWMTZ/GP4[14], D5 AFSX0/GP2[13]/BOOT[10], D6 UART1_TXD/AXR0[10]/GP3[10], D7 AXR0[6]/RMII_RXER/ACLKR2/GP3[6], D8 AXR0[2]/RMII_TXEN/AXR2[3]/GP3[2], E3 USB0_VDDA18, E4 USB0_DRWBUS/GP4[15], F3 USB0_VSSA, F4 USB0_DP, G4 USB0_DM, H4 USB0_VSSA33, H5 USB0_VDDA33, K2 AHCLKX1/EPWM0B/GP3[14], K3 ACLKX1/EPWM0A/GP3[15], K4 AFSX1/EPWMSYNCI/EPWMSYNCO/GP4[10], L1 AHCLKR1/GP4[11], L2 ACLKR1/ECAP2/APWM2/GP4[12], L3 AFSR1/GP4[13], M1 AXR1[9]/GP4[9], M2 AXR1[8]/EPWM1A/GP4[8], M3 AXR1[7]/EPWM1B/GP4[7], M4 AXR1[6]/EPWM2A/GP4[6], N1 AXR1[5]/EPWM2B/GP4[5], N2 AXR1[4]/EQEP1B/GP4[4], N3 AXR1[10]/GP5[10], N4 ~{SPI0_SCS[0]}/~{UART0_RTS}/EQEP0B/GP5[4]/BOOT[4], N5 SPI1_SIMO[0]/I2C1_SDA/GP5[6]/BOOT[6], P1 AXR1[3]/EQEP1A/GP4[3], P2 AXR1[2]/GP4[2], P3 UART0_TXD/I2C0_SCL/TM64P0_OUT12/GP5[9]/BOOT[9], P4 ~{SPI1_SCS[0]}/UART2_TXD/GP5[13], P5 SPI1_SOMI[0]/I2C1_SCL/GP5[5]/BOOT[5], P6 SPI0_SIMO[0]/EQEP0S/GP5[1]/BOOT[1], R2 AXR1[1]/GP4[1], R3 UART0_RXD/I2C0_SDA/TM64P0_IN12/GP5[8]/BOOT[8], R4 ~{SPI1_ENA}/UART2_RXD/GP5[12], R5 ~{SIP0_ENA}/~{UART0_CTS}/EQEP0A/GP5[3]/BOOT[3], R6 SPI0_SOMI[0]/EQEP0I/GP5[0]/BOOT[0], T3 AXR1[0]/GP4[0], T4 AXR1[11]/GP5[11], T5 SPI0_CLK/EQEP1I/GP5[2]/BOOT[2], T6 SPI1_CLK/EQEP1S/GP5[7]/BOOT[7]

## TPD2E001DRL
designator U*
2-CHN 15kV ESD-PROTECTION ARRAY
footprint DRL-5
pins: 1 VCC, 2 NC, 3 IO1, 4 GND, 5 IO2

## TPS2065
designator U*
Current-Limited, Power-distribution switches
footprint SOIC-8BL (SOIC, 8-Leads, Body 4.9x3.9mm, Pitch 1.27mm, IPC High Density)
pins: 1 GND, 2 IN, 3 IN, 4 ~{EN}, 5 ~{OC}, 6 OUT, 7 OUT, 8 OUT

## TPS3808
designator U*
Supervisory circuit - SOT23
footprint SOT26A-6N (SOT23, 6-Leads, Body 2.9x1.7mm, Pitch 0.95mm, Lead Span 2.8mm, IPC Medium Density)
pins: 1 ~{RST}, 2 GND, 3 ~{MR}, 4 Ct, 5 SENSE, 6 VDD

## TPS54331
designator U*
DC/DC - SOIC8
footprint SOIC-8BL (SOIC, 8-Leads, Body 4.9x3.9mm, Pitch 1.27mm, IPC High Density)
pins: 1 BOOT, 2 VIN, 3 EN, 4 SS, 5 VSENSE, 6 COMP, 7 GND, 8 PH

## TPS62065
designator *
footprint WSON (2X2mm SON)
pins: 1 PGND, 2 SW, 3 AGND, 4 FB, 5 EN, 6 MODE, 7 AVIN, 8 PVIN

## TPS76318
designator U*
Linear Regulator - 5pin SOT23
footprint SOT23-5BL (SOT23, 5-Leads, Body 2.9x1.6mm, Pitch 0.95mm, Lead Span 2.8mm, IPC High Density)
pins: 1 IN, 2 GND, 3 EN, 4 NC, 5 OUT

## TSV524
designator *
footprint Quad16 - duplicate
pins: 1 INT1+, 2 VCC+, 3 NC, 4 INT2+, 5 INT2-, 6 OUT2, 7 OUT3, 8 INT3-, 9 INT3+, 10 NC, 11 VCC-, 12 INT4+, 13 INT4-, 14 OUT4, 15 OUT1, 16 INT1-, 17 NC

## TSV524-2
designator *
part A pins: 1 IN1+, 15 OUT1, 16 IN1-
part B pins: 4 IN2+, 5 IN2-, 6 OUT2
part C pins: 7 OUT3, 8 IN3-, 9 IN3+
part D pins: 12 IN4+, 13 IN4-, 14 OUT4
part E pins: 2 VCC+, 11 VCC-

## TXS0108E
designator *
Supplier 1: Digi-Key; Supplier Part Number 1: 296-24806-1-ND
footprint QFN50P450X350X100_HS-21N (QFN, 20-Leads, Body 4.50x3.50mm, Pitch 0.50mm/1.50mm, Thermal Pad 3.05x2.05mm, IPC Medium Density)
pins: 1 A1 (io), 2 VCCA (power), 3 A2 (io), 4 A3 (io), 5 A4 (io), 6 A5 (io), 7 A6 (io), 8 A7 (io), 9 A8 (io), 10 OE (in), 11 GND (power), 12 B8 (io), 13 B7 (io), 14 B6 (io), 15 B5 (io), 16 B4 (io), 17 B3 (io), 18 B2 (io), 19 VCCB (power), 20 B1 (io), 21 THERMAL_PAD
1 alternate drawing of the same symbol

## USB-MiniB
designator P*, comment Mini-B
footprint USB Mini-B (Connector; USB Mini-B, Sinking Type, SM; 5 Position; Right Angle)
pins: 1 VBUS, 2 DM, 3 DP, 4 ID, 5 GND, MH1, MH2, MH3, MH4